# Altium footprint library custom-case.PcbLib: 34 footprints (part 1 of 3)
Each footprint in its own frame and in the unit in brackets; x right, y up, seen from the top. Pads: shape width x height; smd on the part's side, far side on the other; paste and mask are expansions set on the pad; w line width, h text height; cw(c..) or ccw(c..) is an arc to the next point about the centre after c.
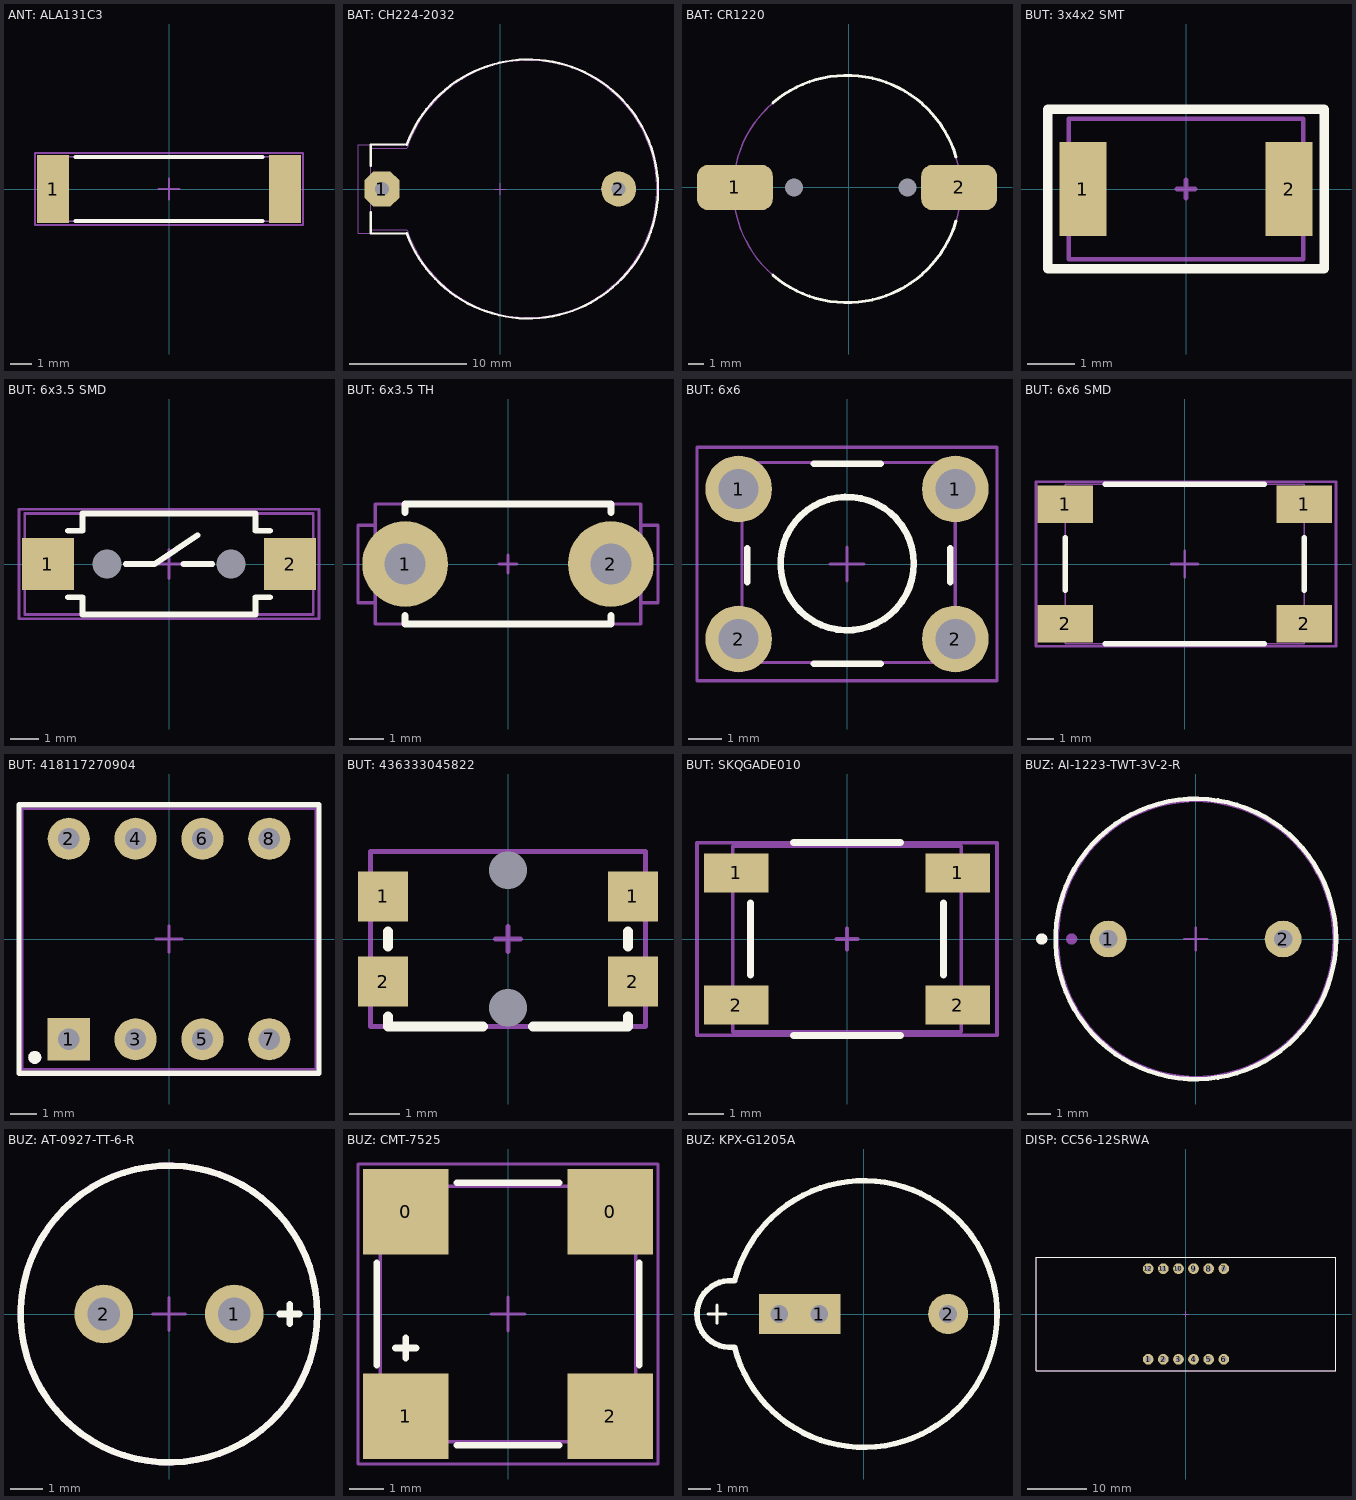
[diagram p0: the footprints below, top view; thin cyan lines are the x and y axes]

## ANT: ALA131C3 [mm]
pads (2):
  rect 1.5x3.2 smd: 1(-5.45,0) ""(5.45,0)
Top Overlay:
  lines w0.2: -4.4,-1.5 4.4,-1.5 ; -4.4,1.5 4.4,1.5
Top Assy:
  lines w0.1: -5.5,-1.525 5.5,-1.5 5.5,1.525 -5.5,1.5 -5.5,-1.525
Size Area:
  lines w0.1: -0.5,0 0.5,0 ; 0,-0.5 0,0.5 ; -6.3,-1.7 6.3,-1.7 6.3,1.7 -6.3,1.7 -6.3,-1.7
3D body "Antenna ALA131C3.STEP": height 1.22, standoff -0.02, extent -5.5,-1.52 5.5,1.52

## BAT: CH224-2032 [mm] "пїЅпїЅпїЅпїЅпїЅпїЅпїЅпїЅпїЅпїЅ пїЅпїЅпїЅпїЅпїЅ пїЅпїЅпїЅ пїЅпїЅпїЅпїЅпїЅпїЅпїЅпїЅ 2032"
height 9
pads (2):
  oct 3x3 hole 1.2: 1(-10.151,0)
  round 3 hole 1.2: 2(10.152,0)
Top Overlay:
  lines w0.2: -11.1,-2 -11.1,-3.81 -8.01,-3.81 ; -11.1,2 -11.1,3.81 -8.025,3.81 ; -8.01,-3.794 ccw(c2.422,0) -8.007,3.803
Top Assy:
  lines w0.1: -7.992,-3.5 -11.1,-3.5 -11.1,3.5 -7.992,3.5 ; -7.989,-3.552 ccw(c2.422,0) -7.989,3.552
Size Area:
  lines w0.1: -8.255,-3.81 -12.192,-3.81 -12.192,3.81 -8.255,3.81 ; -8.01,3.794 cw(c2.422,0) -8.005,-3.808 ; -0.5,0 0.5,0 ; 0,-0.5 0,0.5
3D body "CH224-2032.step": height 8.5, standoff -4, extent -11.079,-11 13.421,11

## BAT: CR1220 [mm]
pads (4):
  rrect50% 5x3 smd mask+0.075: 1(-7.5,0) 2(7.3,0)
  round 0 hole 1.2 mask+0.075: MH(-3.6,0) MH(3.9,0)
Top Overlay:
  lines w0.2: -4.997,-5.781 ccw(c-0.1,-0.1) 7.1,-2.2 ; -4.997,5.581 cw(c-0.1,-0.1) 7.1,2
Top Assy:
  lines w0.1: -5.002,-5.776 cw(c-0.1,-0.1) -4.997,-5.781
3D body "ALSRobot-CR1220.STEP": height 4.04, standoff -0.9, extent -9.35,-7.6 9.15,7.397
3D body "User Library-CR1220-2.STEP": height 3.6, standoff 1.6, extent -6.175,-6.175 6.225,6.225

## BUT: 3x4x2 SMT [mm]
pads (2):
  rect 1x2 smd: 1(-2.2,0) 2(2.2,0)
Top Overlay:
  lines w0.2: -2.95,-1.7 -2.95,1.7 2.95,1.7 2.95,-1.7 -2.95,-1.7
Top Assy:
  lines w0.1: -2.5,-1.5 2.5,-1.5 2.5,1.5 -2.5,1.5 -2.5,-1.5
Size Area:
  lines w0.1: -0.2,0 0.2,0 ; 0,-0.2 0,0.2 ; -2.95,-1.7 2.95,-1.7 2.95,1.7 -2.95,1.7 -2.95,-1.7
3D body "User Library-Pushbutton3x4x2.step": height 2, standoff 0, extent -2.45,-1.45 2.45,1.45

## BUT: 6x3.5 SMD [mm]
pads (4):
  rect 1.8x1.8 smd mask+0.075: 1(-4.2,0) 2(4.2,0)
  round 0 hole 1 mask+0.075: ""(-2.15,0) ""(2.15,0)
Top Overlay:
  lines w0.2: -3.5,-1.15 -3,-1.15 -3,-1.75 3,-1.75 3,-1.15 3.5,-1.15 ; -3.5,1.15 -3,1.15 -3,1.75 3,1.75 3,1.15 3.5,1.15 ; -1.5,0 -0.5,0 1,1 ; 0.5,0 1.5,0
Top Assy:
  lines w0.1: -1.5,0 -0.5,0 1,1 ; 0.5,0 1.25,0 ; -5,-1.75 -5,1.75 5,1.75 5,-1.75 -5,-1.75
Size Area:
  lines w0.1: -0.5,0 0.5,0 ; 0,-0.5 0,0.5 ; -5.2,-1.9 -5.2,1.9 5.2,1.9 5.2,-1.9 -5.2,-1.9
3D body "User Library-DTSMF-32.STEP": height 5.05, standoff 0, extent -5,-1.75 5,1.75

## BUT: 6x3.5 TH [mm]
pads (2):
  round 2.5 hole 1.2 mask+0.075: 1(-3,0) 2(3,0)
Top Overlay:
  lines w0.2: -3,-1.5 -3,-1.75 3,-1.75 ; -3,1.5 -3,1.75 3,1.75 ; 3,-1.7 3,-1.5 ; 3,1.5 3,1.7
Top Assy:
  lines w0.1: -3.875,-1.75 -3.875,1.75 3.875,1.75 3.875,-1.75 -3.875,-1.75
Size Area:
  lines w0.1: -0.25,0 0.25,0 ; 0,-0.25 0,0.25 ; -4.375,-1.125 -3.875,-1.125 -3.875,-1.75 3.875,-1.75 3.875,-1.125 4.375,-1.125 4.375,1.125 3.875,1.125 3.875,1.75 -3.875,1.75 -3.875,1.125 -4.375,1.125 -4.375,-1.125
3D body "User Library-DTS-32.STEP": height 5.1, standoff -3.41, extent -3.878,-1.75 3.878,1.75

## BUT: 6x6 [mm] "Leaded Tactile Button 6x6"
height 5
pads (4):
  round 2 hole 1.2: 1(-3.25,2.25) 1(3.25,2.25) 2(-3.25,-2.25) 2(3.25,-2.25)
Top Overlay:
  circle w0.2: c0.004,0.012 r2
  lines w0.2: -2.996,-0.544 -2.996,0.472 ; -0.996,-2.988 1.004,-2.988 ; -0.996,3.012 1.004,3.012 ; 3.1,-0.544 3.1,0.472
Top Assy:
  lines w0.1: -3.148,-2.957 3.252,-2.957 3.252,3.043 -3.148,3.043 -3.148,-2.957
Size Area:
  lines w0.1: -0.5,0 0.5,0 ; 0,-0.5 0,0.5 ; -4.5,-3.5 -4.5,3.5 4.5,3.5 4.5,-3.5 -4.5,-3.5
3D body "������_��������_6�6�1.STEP": height 4.5, standoff -0.9, extent -3.148,-2.957 3.252,3.043

## BUT: 6x6 SMD [mm] "Leaded Tactile Button 6x6"
height 9
pads (4):
  rect 2.1x1.4 smd: 1(-4.5,2.25) 1(4.5,2.25) 2(-4.5,-2.25) 2(4.5,-2.25)
Top Overlay:
  lines w0.2: -4.5,-1 -4.5,1 ; -3,-3 3,-3 ; -3,3 3,3 ; 4.5,-1 4.5,1
Top Assy:
  lines w0.05: -4.5,-3 -4.5,3 4.5,3 4.5,-3 -4.5,-3
Size Area:
  lines w0.1: -0.5,0 0.5,0 ; 0,-0.5 0,0.5 ; -5.6,-3.1 5.7,-3.1 5.7,3.1 -5.6,3.1 -5.6,-3.1
3D body "User Library-PTS645SL43SMTR92-LFS.STEP": height 4.3, standoff 0, extent -4.5,-3 4.5,3

## BUT: 418117270904 [mm]
pads (10):
  rect 1.6x1.6 hole 0.8: 1(-3.81,-3.81)
  round 1.6 hole 0.8: 2(-3.81,3.81) 3(-1.27,-3.81) 4(-1.27,3.81) 5(1.27,-3.81) 6(1.27,3.81) 7(3.81,-3.81) 8(3.81,3.81)
  round 0.5 on Mech1: ""(-5.1,-4.5)
  round 0.5 on Top Overlay: ""(-5.1,-4.5)
Top Overlay:
  lines w0.2: -5.7,-5.1 -5.7,5.1 5.7,5.1 5.7,-5.1 -5.7,-5.1
Top Assy:
  lines w0.1: -5.58,-4.95 -5.58,4.95 5.58,4.95 5.58,-4.95 -5.58,-4.95
Size Area:
  lines w0.1: -0.5,0 0.5,0 ; 0,-0.5 0,0.5 ; -5.7,-5.1 -5.7,5.1 5.7,5.1 5.7,-5.1 -5.7,-5.1
3D body "418117270904 (rev1).stp": height 6.9, standoff -3.65, extent -5.58,-4.95 5.58,4.95

## BUT: 436333045822 [mm]
pads (6):
  rect 1x1 smd: 1(-2.5,0.85) 1(2.5,0.85) 2(-2.5,-0.85) 2(2.5,-0.85)
  round 0 hole 0.75: MH(0,-1.375) MH(0,1.375)
Top Overlay:
  lines w0.2: -2.4,-1.55 -2.4,-1.75 -0.5,-1.75 ; -2.4,-0.15 -2.4,0.15 ; 0.5,-1.75 2.4,-1.75 2.4,-1.55 ; 2.4,-0.15 2.4,0.15
Top Assy:
  lines w0.1: -2.75,-1.75 2.75,-1.75 2.75,1.75 -2.75,1.75 -2.75,-1.75
Size Area:
  lines w0.1: -0.25,0 0.25,0 ; 0,-0.25 0,0.25 ; -2.75,-1.75 -2.75,1.75 2.75,1.75 2.75,-1.75 -2.75,-1.75
3D body "436333045822_Download_STP_436333045822_rev1.stp": height 1.65, standoff -0.5, extent -2.75,-1.75 2.75,2.75

## BUT: SKQGADE010 [mm]
pads (4):
  rect 1.8x1.1 smd: 1(-3.1,1.85) 1(3.1,1.85) 2(-3.1,-1.85) 2(3.1,-1.85)
Top Overlay:
  lines w0.2: -2.7,-1 -2.7,1 ; -1.5,-2.7 1.5,-2.7 ; -1.5,2.7 1.5,2.7 ; 2.7,-1 2.7,1
Top Assy:
  lines w0.1: -3.2,-2.6 3.2,-2.6 3.2,2.6 -3.2,2.6 -3.2,-2.6
Size Area:
  lines w0.1: -0.3,0 0.3,0 ; 0,-0.3 0,0.3 ; -4.2,-2.7 4.2,-2.7 4.2,2.7 -4.2,2.7 -4.2,-2.7
3D body "User Library-4x4_SMD_Switch.STEP": height 1.45, standoff -0.05, extent -3.2,-2.6 3.2,2.6

## BUZ: AI-1223-TWT-3V-2-R [mm]
pads (4):
  round 1.6 hole 0.8: 1(-3.8,0) 2(3.8,0)
  round 0.5 on Top Overlay: ""(-6.7,0)
  round 0.5 on Mech1: ""(-5.4,0)
Top Overlay:
  circle w0.2: c0,0 r6.1
Top Assy:
  circle w0.1: c0,0 r6
Size Area:
  circle w0.1: c0,0 r6
  lines w0.1: -0.5,0 0.5,0 ; 0,-0.5 0,0.5
3D body "AI-1223-TWT-3V-2-R.STEP": height 7.55, standoff -2, extent -6,-6 6,6

## BUZ: AT-0927-TT-6-R [mm]
pads (2):
  round 1.8 hole 1: 1(2,0) 2(-2,0)
Top Overlay:
  circle w0.2: c0,0 r4.55
  lines w0.2: 3.4,0 4,0 ; 3.7,-0.3 3.7,0.3
Top Assy:
  circle w0.1: c0,0 r4.5
  lines w0.1: 3.4,0 4,0 ; 3.7,-0.3 3.7,0.3
Size Area:
  circle w0.1: c0,0 r4.6
  lines w0.1: -0.5,0 0.5,0 ; 0,-0.5 0,0.5
3D body "AT-0927-TT-6-R.STEP": height 4.52, standoff -2.5, extent -4.5,-4.5 4.5,4.5

## BUZ: CMT-7525 [mm]
pads (4):
  rect 2.5x2.5 smd: 0(-3,3) 0(3,3) 1(-3,-3) 2(3,-3)
Top Overlay:
  lines w0.2: -3.85,-1.5 -3.85,1.5 ; -3.3,-1 -2.7,-1 ; -3,-1.3 -3,-0.7 ; -1.5,-3.85 1.5,-3.85 ; -1.5,3.85 1.5,3.85 ; 3.85,-1.5 3.85,1.5
Top Assy:
  lines w0.1: -3.5,-3 -2.5,-3 ; -3,-3.5 -3,-2.5 ; -3.75,-3.75 -3.75,3.75 3.75,3.75 3.75,-3.75 -3.75,-3.75
Size Area:
  lines w0.1: -0.5,0 0.5,0 ; 0,-0.5 0,0.5 ; -4.4,-4.4 -4.4,4.4 4.4,4.4 4.4,-4.4 -4.4,-4.4
3D body "User Library-YX7525P.STEP": height 2.5, standoff -0.01, extent -3.75,-3.75 3.75,3.75

## BUZ: KPX-G1205A [mm] "Buzzer"
pads (3):
  rect 1.8x1.8 hole 0.8 paste-2539.97: 1(-3.8,0)
  rect 1.9x1.8 hole 0.8 paste-2539.97: 1(-2,0)
  round 1.8 hole 0.8 paste-2539.97: 2(3.8,0)
Top Overlay:
  lines w0.127: -7,0 -6.2,0 ; -6.6,-0.42 -6.6,0 -6.6,0.4
  lines w0.254: -5.882,1.495 ccw(c-6,0) -5.866,-1.494 ; -5.811,1.493 cw(c0,0) -5.81,-1.499
3D body "KPX-G1205A.SLDPRT": height 9.5, standoff -2, extent -5.997,-5.978 5.997,6.01

## DISP: CC56-12SRWA [mm]
height 8.1
pads (12):
  round 1.8 hole 0.9: 1(-6.35,-7.62) 2(-3.81,-7.62) 3(-1.27,-7.62) 4(1.27,-7.62) 5(3.81,-7.62) 6(6.35,-7.62) 7(6.35,7.62) 8(3.81,7.62) 9(1.27,7.62) 10(-1.27,7.62) 11(-3.81,7.62) 12(-6.35,7.62)
Top Overlay:
  lines w0.2: -25.2,-9.5 25.2,-9.5 25.2,9.5 -25.2,9.5 -25.2,-9.5
Top Assy:
  lines w0.1: -25.2,-9.5 25.2,-9.5 25.2,9.5 -25.2,9.5 -25.2,-9.5
Size Area:
  lines w0.1: -0.5,0 0.5,0 ; 0,-0.5 0,0.5 ; -25.2,-9.5 -25.2,9.5 25.2,9.5 25.2,-9.5 -25.2,-9.5
3D body "User Library-C-564 (7 segment 4 digit LED display).STEP": height 8, standoff -6.2, extent -25.2,-9.5 25.2,9.5